# Altium schematic symbol library PTD901-1015F-B203.SchLib: 1 symbol
Pins are listed as number, name and electrical type; pins without a type are passive.

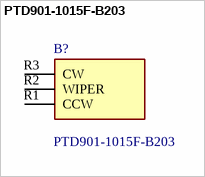
[diagram p0: symbol PTD901-1015F-B203]

## PTD901-1015F-B203
designator B?
Res Carbon Film POT 20K Ohm 10% 0.05W(1/20W) 1(Elec)/1(Mech)Turns 6mm (22.05 X 9.5 X 11.3mm) Pin Panel Mount/Through Hole; Manufacturer_Name: Bourns; Geometry.Height: 11.9mm; Mouser Part Number: 652-PTD901-1015FB203; Mouser Price/Stock: https://www.mouser.co.uk/ProductDetail/Bourns/PTD901-1015F-B203?qs=kWCfjVKDuI2E4NFIGwREVA%3D%3D; Manufacturer_Part_Number: PTD901-1015F-B203; Datasheet Link: https://www.digikey.ph/en/products/detail/bourns-inc/PTD901-1015F-B203/4699444
footprint PTD9011015FB203
pins: R1 CCW, R2 WIPER, R3 CW